# EAGLE library part 74LVC3G14 (library 74x3g14)
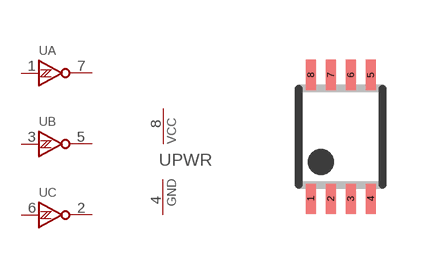
[diagram p0: symbol with the pads of DCU; footprint DCU]

Designator prefix U; gates A=SCHNMITT-INVERTER B=SCHNMITT-INVERTER C=SCHNMITT-INVERTER PWR=POWER-PINS

## 74LVC3G14DCU  [DCU]
1  A:A  in
2  C:Y  out
3  B:A  in
4  PWR:GND  pwr
5  B:Y  out
6  C:A  in
7  A:Y  out
8  PWR:VCC  pwr

## Footprint DCU (pad centres in mm)
smd 0.25 x 0.75: 1 -0.75,-1.55; 2 -0.25,-1.55; 3 0.25,-1.55; 4 0.75,-1.55; 5 0.75,1.55; 6 0.25,1.55; 7 -0.25,1.55; 8 -0.75,1.55